# Altium schematic symbol library SCH - RF - AMPLIFIER - QORVO TAT8804D1H.SCHLIB: 1 symbol
Pins are listed as number, name and electrical type; pins without a type are passive.

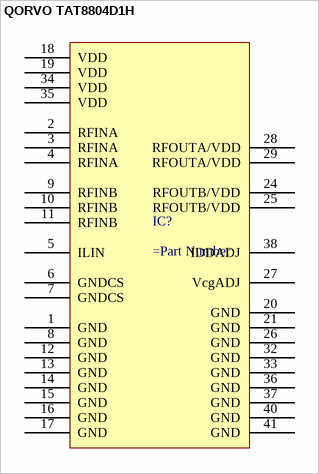
[diagram p0: symbol QORVO TAT8804D1H]

## QORVO TAT8804D1H
designator IC?
pins: 1 GND, 2 RFINA, 3 RFINA, 4 RFINA, 5 ILIN, 6 GNDCS, 7 GNDCS, 8 GND, 9 RFINB, 10 RFINB, 11 RFINB, 12 GND, 13 GND, 14 GND, 15 GND, 16 GND, 17 GND, 18 VDD, 19 VDD, 20 GND, 21 GND, 24 RFOUTB/VDD, 25 RFOUTB/VDD, 26 GND, 27 VcgADJ, 28 RFOUTA/VDD, 29 RFOUTA/VDD, 32 GND, 33 GND, 34 VDD, 35 VDD, 36 GND, 37 GND, 38 IDDADJ, 40 GND, 41 GND